# EAGLE library part 6871XX182122_687112182122 (library 68611414422)
WR-FPC 0.50 mm SMT ZIF Horizontal Dual Contact KIND PROPERTIES Pitch 0.5 mm MATERIAL PROPERTIES Insulator Material LCP Contact Material Phosphor Bronze Contact Plating 80 (µ") Tin over 50 (µ") Nickel Contact Type Stamped Solder Tabs Brass <https://www.we-online.com/catalog/media/o73336v209%20Family_WR-FPC_687186182122.jpg> Details see: https://www.we-online.com/catalog/en/FPC_0_5_SMT_ZIF_HORIZONTAL_DUAL_CONTACT_BACK_LOCKING_6871XX182122/ Updated by Ella Wu 2020-08-26 2020(C) Wurth Elektronik
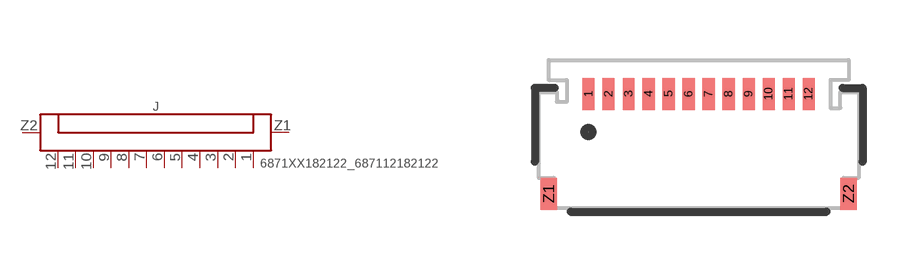
[diagram p110: symbol with the pads of 687112182122; footprint 687112182122]

Designator prefix J

## 6871XX182122_687112182122 (CONTACT-RESISTANCE: 30mOhm; DATASHEET-URL: https://www.we-online.com/catalog/datasheet/687112182122.pdf; IR: 0.5A; L: 8mm; PACKAGING: Tape and Reel; PART-NUMBER: 687112182122; PINS: 12; PITCH: 0.5mm; TYPE: Horizontal; VALUE: 687112182122; WORKING-VOLTAGE: 50V(AC))  [687112182122]
1  1  pas
2  2  pas
3  3  pas
4  4  pas
5  5  pas
6  6  pas
7  7  pas
8  8  pas
9  9  pas
10  10  pas
11  11  pas
12  12  pas
Z1  Z1  pas
Z2  Z2  pas

## Footprint 687112182122 (pad centres in mm)
WR-FPC 0.50 mm SMT ZIF Horizontal Dual Contact ,12Pins
smd 0.3 x 0.8: 1 -2.75,1.4; 2 -2.25,1.4; 3 -1.75,1.4; 4 -1.25,1.4; 5 -0.75,1.4; 6 -0.25,1.4; 7 0.25,1.4; 8 0.75,1.4; 9 1.25,1.4; 10 1.75,1.4; 11 2.25,1.4; 12 2.75,1.4
smd 0.4 x 0.8: Z1 -3.75,-1.1; Z2 3.75,-1.1